# Altium footprint library LED-0603-BLUE.PcbLib: 1 footprints
Each footprint in its own frame and in the unit in brackets; x right, y up, seen from the top. Pads: shape width x height; smd on the part's side, far side on the other; paste and mask are expansions set on the pad; w line width, h text height; cw(c..) or ccw(c..) is an arc to the next point about the centre after c.
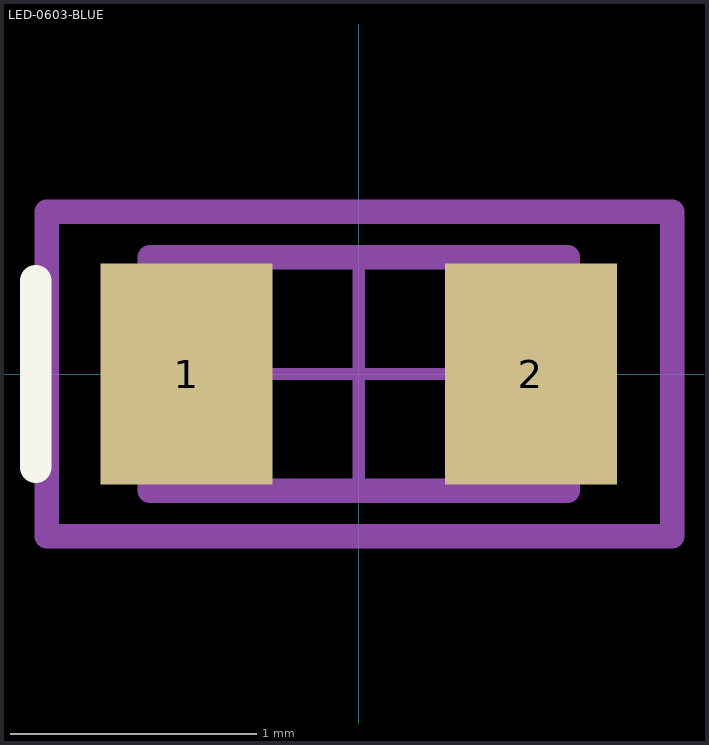
[diagram p0: the footprint, top view; thin cyan lines are the x and y axes]

## LED-0603-BLUE [mm] "LED,0603,BLUE"
pads (2):
  rect 0.7x0.9 smd: 1(-0.7,0) 2(0.7,0)
Top Overlay:
  lines w0.127: -1.314,-0.38 -1.314,0.38
Mechanical 13:
  lines w0.1: -0.85,-0.475 0.85,-0.475 0.85,0.475 -0.85,0.475 -0.85,-0.475
Mechanical 15:
  lines w0.05: -1.27,-0.675 1.27,-0.675 ; -1.27,-0.675 -1.27,0.675 1.27,0.675 1.27,-0.675 ; -0.475,0 0.475,0 ; 0,-0.475 0,0.475
Mechanical 29:
  lines w0.1: -1.27,-0.66 1.275,-0.66 1.275,0.66 -1.27,0.66 -1.27,-0.66
  text ".Designator" at -0.787,-0.457 h1.52
3D body: height 0.9, standoff 0, extent -0.875,-0.45 0.825,0.45